# Altium schematic symbol library Schlib1.SchLib: 1 symbol
Pins are listed as number, name and electrical type; pins without a type are passive.

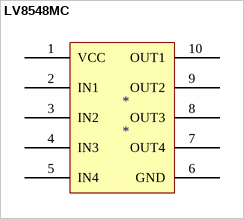
[diagram p0: symbol LV8548MC]

## LV8548MC
designator *
pins: 1 VCC, 2 IN1, 3 IN2, 4 IN3, 5 IN4, 6 GND, 7 OUT4, 8 OUT3, 9 OUT2, 10 OUT1